# Altium footprint library Connector_JST.PcbLib: 558 footprints (part 21 of 35)
Each footprint in its own frame and in the unit in brackets; x right, y up, seen from the top. Pads: shape width x height; smd on the part's side, far side on the other; paste and mask are expansions set on the pad; w line width, h text height; cw(c..) or ccw(c..) is an arc to the next point about the centre after c.
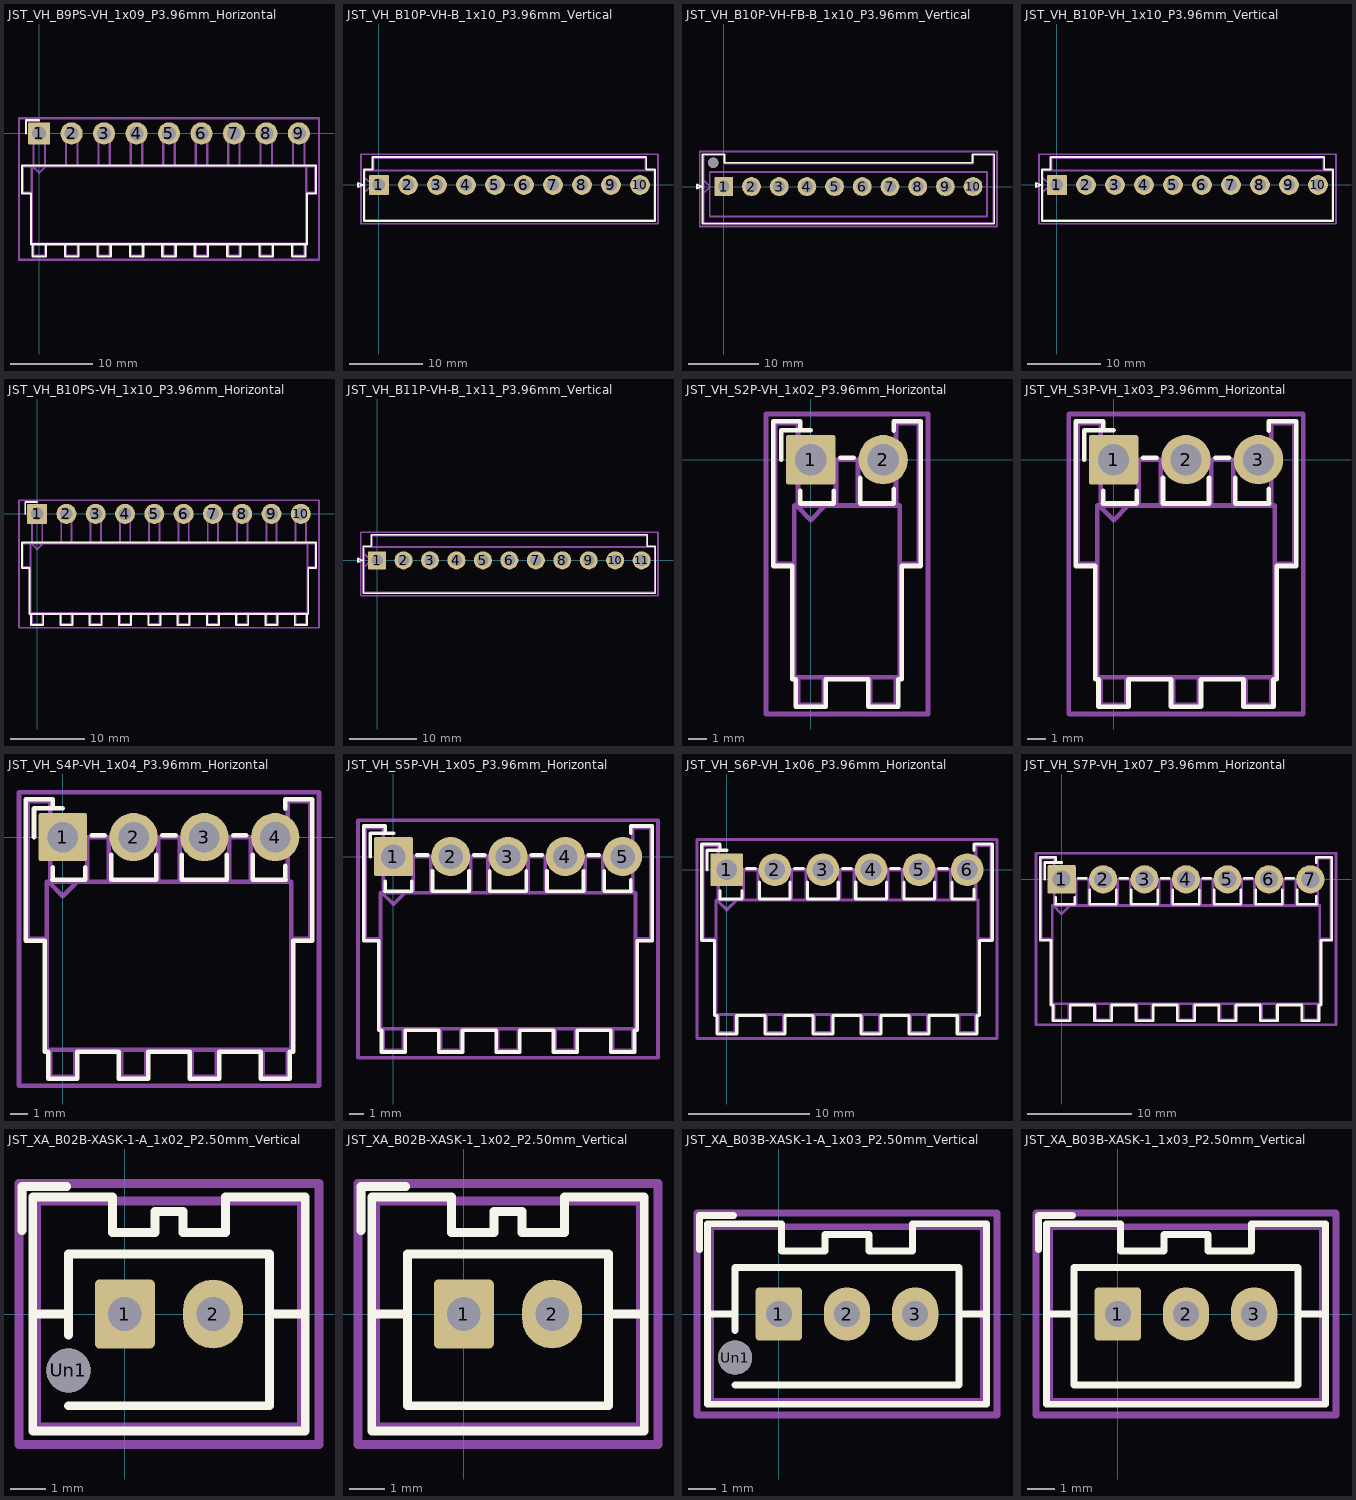
[diagram p20: the footprints below, top view; thin cyan lines are the x and y axes]

## JST_VH_B9PS-VH_1x09_P3.96mm_Horizontal [mm] "JST_VH_B9PS-VH_1x09_P3.96mm_Horizontal"
pads (9):
  rrect9% 2.7x2.7 hole 1.7: 1(0,0)
  round 2.7 hole 1.7: 2(3.96,0) 3(7.92,0) 4(11.88,0) 5(15.84,0) 6(19.8,0) 7(23.76,0) 8(27.72,0) 9(31.68,0)
F.SilkS:
  lines w0.254: -1.61,0 -1.61,1.61 0,1.61 ; -0.82,-13.51 -0.82,-15.01 0.82,-15.01 0.82,-13.51 ; 3.14,-13.51 3.14,-15.01 4.78,-15.01 4.78,-13.51 ; 7.1,-13.51 7.1,-15.01 8.74,-15.01 8.74,-13.51 ; 11.06,-13.51 11.06,-15.01 12.7,-15.01 12.7,-13.51 ; 15.02,-13.51 15.02,-15.01 16.66,-15.01 16.66,-13.51 ; 18.98,-13.51 18.98,-15.01 20.62,-15.01 20.62,-13.51 ; 22.94,-13.51 22.94,-15.01 24.58,-15.01 24.58,-13.51 ; 26.9,-13.51 26.9,-15.01 28.54,-15.01 28.54,-13.51 ; 30.86,-13.51 30.86,-15.01 32.5,-15.01 32.5,-13.51 ; -2.06,-7.31 -1.01,-7.31 -1.01,-13.51 32.69,-13.51 32.69,-7.31 33.74,-7.31 33.74,-3.89 -2.06,-3.89 -2.06,-7.31
Top Component Center:
  lines w0.127: -0.127,0 0.127,0 ; 0,-0.127 0,0.127
Top Assembly:
  lines w0.254: -0.9,-7.2 -1.95,-7.2 -1.95,-4 -0.9,-4 ; -0.8,-4 0,-4.8 0.8,-4 ; -0.7,-13.4 -0.7,-14.9 0.7,-14.9 0.7,-13.4 ; -0.7,-4 -0.7,0 0.7,0 0.7,-4 ; 3.26,-13.4 3.26,-14.9 4.66,-14.9 4.66,-13.4 ; 3.26,-4 3.26,0 4.66,0 4.66,-4 ; 7.22,-13.4 7.22,-14.9 8.62,-14.9 8.62,-13.4 ; 7.22,-4 7.22,0 8.62,0 8.62,-4 ; 11.18,-13.4 11.18,-14.9 12.58,-14.9 12.58,-13.4 ; 11.18,-4 11.18,0 12.58,0 12.58,-4 ; 15.14,-13.4 15.14,-14.9 16.54,-14.9 16.54,-13.4 ; 15.14,-4 15.14,0 16.54,0 16.54,-4 ; 19.1,-13.4 19.1,-14.9 20.5,-14.9 20.5,-13.4 ; 19.1,-4 19.1,0 20.5,0 20.5,-4 ; 23.06,-13.4 23.06,-14.9 24.46,-14.9 24.46,-13.4 ; 23.06,-4 23.06,0 24.46,0 24.46,-4 ; 27.02,-13.4 27.02,-14.9 28.42,-14.9 28.42,-13.4 ; 27.02,-4 27.02,0 28.42,0 28.42,-4 ; 30.98,-13.4 30.98,-14.9 32.38,-14.9 32.38,-13.4 ; 30.98,-4 30.98,0 32.38,0 32.38,-4 ; 32.58,-7.2 33.63,-7.2 33.63,-4 32.58,-4 ; -0.9,-4 32.58,-4 ; -0.9,-4 -0.9,-13.4 32.58,-13.4 32.58,-4
Top Courtyard:
  lines w0.254: -2.45,-15.4 34.13,-15.4 34.13,1.85 -2.45,1.85 -2.45,-15.4
Top Designator:
  text ".Designator" at 12.191,-8.726 h1.52

## JST_VH_B10P-VH-B_1x10_P3.96mm_Vertical [mm] "JST_VH_B10P-VH-B_1x10_P3.96mm_Vertical"
pads (10):
  rrect9% 2.7x2.7 hole 1.7: 1(0,0)
  round 2.7 hole 1.7: 2(3.96,0) 3(7.92,0) 4(11.88,0) 5(15.84,0) 6(19.8,0) 7(23.76,0) 8(27.72,0) 9(31.68,0) 10(35.64,0)
F.SilkS:
  lines w0.254: -2.86,-0.3 -2.26,0 -2.86,0.3 -2.86,-0.3 ; -2.06,-4.91 37.7,-4.91 37.7,2.11 36.5,2.11 36.5,3.81 -0.86,3.81 -0.86,2.11 -2.06,2.11 -2.06,-4.91
Top Component Center:
  lines w0.127: -0.127,0 0.127,0 ; 0,-0.127 0,0.127
Top Assembly:
  lines w0.254: -1.95,-1 -0.95,0 -1.95,1 ; -0.75,2 -0.75,3.7 36.39,3.7 36.39,2 ; -1.95,-4.8 37.59,-4.8 37.59,2 -1.95,2 -1.95,-4.8
Top Courtyard:
  lines w0.254: -2.45,-5.3 38.1,-5.3 38.1,4.2 -2.45,4.2 -2.45,-5.3
Top Designator:
  text ".Designator" at 14.223,-3.265 h1.52

## JST_VH_B10P-VH-FB-B_1x10_P3.96mm_Vertical [mm] "JST_VH_B10P-VH-FB-B_1x10_P3.96mm_Vertical"
pads (11):
  rrect9% 2.7x2.7 hole 1.7: 1(0,0)
  round 2.7 hole 1.7: 2(3.96,0) 3(7.92,0) 4(11.88,0) 5(15.84,0) 6(19.8,0) 7(23.76,0) 8(27.72,0) 9(31.68,0) 10(35.64,0)
  round 1.45 hole 1.45: Un1(-1.5,3.4)
F.SilkS:
  lines w0.254: -3.83,-0.3 -3.83,0.3 -3.23,0 -3.83,-0.3 ; -3.03,-5.31 -3.03,4.61 0.09,4.61 0.09,3.41 35.55,3.41 35.55,4.61 38.67,4.61 38.67,-5.31 -3.03,-5.31
Top Component Center:
  lines w0.127: -0.127,0 0.127,0 ; 0,-0.127 0,0.127
Top Assembly:
  lines w0.254: -2.92,-1 -1.92,0 -2.92,1 ; -2.92,-5.2 -2.92,4.5 -0.02,4.5 -0.02,3.3 35.66,3.3 35.66,4.5 38.56,4.5 38.56,-5.2 -2.92,-5.2 ; -2,-4.3 -2,2.1 37.64,2.1 37.64,-4.3 -2,-4.3
Top Courtyard:
  lines w0.254: -3.43,-5.7 -3.43,5 39.06,5 39.06,-5.7 -3.43,-5.7
Top Designator:
  text ".Designator" at 14.096,-2.884 h1.52

## JST_VH_B10P-VH_1x10_P3.96mm_Vertical [mm] "JST_VH_B10P-VH_1x10_P3.96mm_Vertical"
pads (10):
  rrect9% 2.7x2.7 hole 1.7: 1(0,0)
  round 2.7 hole 1.7: 2(3.96,0) 3(7.92,0) 4(11.88,0) 5(15.84,0) 6(19.8,0) 7(23.76,0) 8(27.72,0) 9(31.68,0) 10(35.64,0)
F.SilkS:
  lines w0.254: -2.86,-0.3 -2.26,0 -2.86,0.3 -2.86,-0.3 ; -2.06,-4.91 37.7,-4.91 37.7,2.11 36.5,2.11 36.5,3.81 -0.86,3.81 -0.86,2.11 -2.06,2.11 -2.06,-4.91
Top Component Center:
  lines w0.127: -0.127,0 0.127,0 ; 0,-0.127 0,0.127
Top Assembly:
  lines w0.254: -1.95,-1 -0.95,0 -1.95,1 ; -0.75,2 -0.75,3.7 36.39,3.7 36.39,2 ; -1.95,-4.8 37.59,-4.8 37.59,2 -1.95,2 -1.95,-4.8
Top Courtyard:
  lines w0.254: -2.45,-5.3 38.1,-5.3 38.1,4.2 -2.45,4.2 -2.45,-5.3
Top Designator:
  text ".Designator" at 14.35,-3.265 h1.52

## JST_VH_B10PS-VH_1x10_P3.96mm_Horizontal [mm] "JST_VH_B10PS-VH_1x10_P3.96mm_Horizontal"
pads (10):
  rrect9% 2.7x2.7 hole 1.7: 1(0,0)
  round 2.7 hole 1.7: 2(3.96,0) 3(7.92,0) 4(11.88,0) 5(15.84,0) 6(19.8,0) 7(23.76,0) 8(27.72,0) 9(31.68,0) 10(35.64,0)
F.SilkS:
  lines w0.254: -1.61,0 -1.61,1.61 0,1.61 ; -0.82,-13.51 -0.82,-15.01 0.82,-15.01 0.82,-13.51 ; 3.14,-13.51 3.14,-15.01 4.78,-15.01 4.78,-13.51 ; 7.1,-13.51 7.1,-15.01 8.74,-15.01 8.74,-13.51 ; 11.06,-13.51 11.06,-15.01 12.7,-15.01 12.7,-13.51 ; 15.02,-13.51 15.02,-15.01 16.66,-15.01 16.66,-13.51 ; 18.98,-13.51 18.98,-15.01 20.62,-15.01 20.62,-13.51 ; 22.94,-13.51 22.94,-15.01 24.58,-15.01 24.58,-13.51 ; 26.9,-13.51 26.9,-15.01 28.54,-15.01 28.54,-13.51 ; 30.86,-13.51 30.86,-15.01 32.5,-15.01 32.5,-13.51 ; 34.82,-13.51 34.82,-15.01 36.46,-15.01 36.46,-13.51 ; -2.06,-7.31 -2.06,-3.89 37.7,-3.89 37.7,-7.31 36.65,-7.31 36.65,-13.51 -1.01,-13.51 -1.01,-7.31 -2.06,-7.31
Top Component Center:
  lines w0.127: -0.127,0 0.127,0 ; 0,-0.127 0,0.127
Top Assembly:
  lines w0.254: -0.9,-7.2 -1.95,-7.2 -1.95,-4 -0.9,-4 ; -0.8,-4 0,-4.8 0.8,-4 ; -0.7,-13.4 -0.7,-14.9 0.7,-14.9 0.7,-13.4 ; -0.7,-4 -0.7,0 0.7,0 0.7,-4 ; 3.26,-13.4 3.26,-14.9 4.66,-14.9 4.66,-13.4 ; 3.26,-4 3.26,0 4.66,0 4.66,-4 ; 7.22,-13.4 7.22,-14.9 8.62,-14.9 8.62,-13.4 ; 7.22,-4 7.22,0 8.62,0 8.62,-4 ; 11.18,-13.4 11.18,-14.9 12.58,-14.9 12.58,-13.4 ; 11.18,-4 11.18,0 12.58,0 12.58,-4 ; 15.14,-13.4 15.14,-14.9 16.54,-14.9 16.54,-13.4 ; 15.14,-4 15.14,0 16.54,0 16.54,-4 ; 19.1,-13.4 19.1,-14.9 20.5,-14.9 20.5,-13.4 ; 19.1,-4 19.1,0 20.5,0 20.5,-4 ; 23.06,-13.4 23.06,-14.9 24.46,-14.9 24.46,-13.4 ; 23.06,-4 23.06,0 24.46,0 24.46,-4 ; 27.02,-13.4 27.02,-14.9 28.42,-14.9 28.42,-13.4 ; 27.02,-4 27.02,0 28.42,0 28.42,-4 ; 30.98,-13.4 30.98,-14.9 32.38,-14.9 32.38,-13.4 ; 30.98,-4 30.98,0 32.38,0 32.38,-4 ; 34.94,-13.4 34.94,-14.9 36.34,-14.9 36.34,-13.4 ; 34.94,-4 34.94,0 36.34,0 36.34,-4 ; 36.54,-7.2 37.59,-7.2 37.59,-4 36.54,-4 ; -0.9,-4 -0.9,-13.4 36.54,-13.4 36.54,-4 ; -0.9,-4 36.54,-4
Top Courtyard:
  lines w0.254: -2.45,-15.4 -2.45,1.85 38.1,1.85 38.1,-15.4 -2.45,-15.4
Top Designator:
  text ".Designator" at 14.35,-8.599 h1.52

## JST_VH_B11P-VH-B_1x11_P3.96mm_Vertical [mm] "JST_VH_B11P-VH-B_1x11_P3.96mm_Vertical"
pads (11):
  rrect9% 2.7x2.7 hole 1.7: 1(0,0)
  round 2.7 hole 1.7: 2(3.96,0) 3(7.92,0) 4(11.88,0) 5(15.84,0) 6(19.8,0) 7(23.76,0) 8(27.72,0) 9(31.68,0) 10(35.64,0) 11(39.6,0)
F.SilkS:
  lines w0.254: -2.86,-0.3 -2.86,0.3 -2.26,0 -2.86,-0.3 ; -2.06,-4.91 -2.06,2.11 -0.86,2.11 -0.86,3.81 40.46,3.81 40.46,2.11 41.66,2.11 41.66,-4.91 -2.06,-4.91
Top Component Center:
  lines w0.127: -0.127,0 0.127,0 ; 0,-0.127 0,0.127
Top Assembly:
  lines w0.254: -1.95,-1 -0.95,0 -1.95,1 ; -0.75,2 -0.75,3.7 40.35,3.7 40.35,2 ; -1.95,-4.8 -1.95,2 41.55,2 41.55,-4.8 -1.95,-4.8
Top Courtyard:
  lines w0.254: -2.45,-5.3 -2.45,4.2 42.05,4.2 42.05,-5.3 -2.45,-5.3
Top Designator:
  text ".Designator" at 14.604,-3.265 h1.52

## JST_VH_S2P-VH_1x02_P3.96mm_Horizontal [mm] "JST_VH_S2P-VH_1x02_P3.96mm_Horizontal"
pads (2):
  rrect9% 2.7x2.7 hole 1.7: 1(0,0)
  round 2.7 hole 1.7: 2(3.96,0)
F.SilkS:
  lines w0.254: -1.61,0 -1.61,1.61 0,1.61 ; -0.58,-2.39 1.26,-2.39 1.26,-1.7 ; -0.57,-2.39 -0.57,-1.7 ; -0.57,1.61 -0.57,2.11 -2.06,2.11 -2.06,-5.81 -1.01,-5.81 -1.01,-12.01 -0.82,-12.01 -0.82,-13.51 0.82,-13.51 0.82,-12.01 3.14,-12.01 3.14,-13.51 4.78,-13.51 4.78,-12.01 4.97,-12.01 4.97,-5.81 6.02,-5.81 6.02,2.11 4.53,2.11 4.53,1.6 ; 1.61,0.11 2.35,0.11 ; 2.7,-1 2.7,-2.39 4.54,-2.39 ; 4.53,-2.39 4.53,-1.6
Top Component Center:
  lines w0.127: -0.127,0 0.127,0 ; 0,-0.127 0,0.127
Top Assembly:
  lines w0.254: -0.9,-5.7 -1.95,-5.7 -1.95,2 -0.7,2 -0.7,-2.5 ; -0.8,-2.5 0,-3.3 0.8,-2.5 ; -0.7,-11.9 -0.7,-13.4 0.7,-13.4 0.7,-11.9 ; 1.38,-2.5 1.38,0 2.58,0 2.58,-2.5 ; 3.26,-11.9 3.26,-13.4 4.66,-13.4 4.66,-11.9 ; 4.66,-2.5 4.66,2 5.91,2 5.91,-5.7 4.86,-5.7 ; -0.9,-11.9 4.86,-11.9 4.86,-2.5 -0.9,-2.5 -0.9,-11.9
Top Courtyard:
  lines w0.254: -2.45,-13.9 6.41,-13.9 6.41,2.5 -2.45,2.5 -2.45,-13.9
Top Designator:
  text ".Designator" at -1.398,-5.297 h1.52

## JST_VH_S3P-VH_1x03_P3.96mm_Horizontal [mm] "JST_VH_S3P-VH_1x03_P3.96mm_Horizontal"
pads (3):
  rrect9% 2.7x2.7 hole 1.7: 1(0,0)
  round 2.7 hole 1.7: 2(3.96,0) 3(7.92,0)
F.SilkS:
  lines w0.254: -1.61,0 -1.61,1.61 0,1.61 ; -0.58,-2.39 1.26,-2.39 1.26,-1.7 ; -0.57,-2.39 -0.57,-1.7 ; -0.57,1.61 -0.57,2.11 -2.06,2.11 -2.06,-5.81 -1.01,-5.81 -1.01,-12.01 -0.82,-12.01 -0.82,-13.51 0.82,-13.51 0.82,-12.01 3.14,-12.01 3.14,-13.51 4.78,-13.51 4.78,-12.01 7.1,-12.01 7.1,-13.51 8.74,-13.51 8.74,-12.01 8.93,-12.01 8.93,-5.81 9.98,-5.81 9.98,2.11 8.49,2.11 8.49,1.6 ; 1.61,0.11 2.35,0.11 ; 2.7,-1 2.7,-2.39 5.22,-2.39 5.22,-1 ; 5.57,0.11 6.31,0.11 ; 6.66,-1 6.66,-2.39 8.5,-2.39 ; 8.49,-2.39 8.49,-1.6
Top Component Center:
  lines w0.127: -0.127,0 0.127,0 ; 0,-0.127 0,0.127
Top Assembly:
  lines w0.254: -0.9,-5.7 -1.95,-5.7 -1.95,2 -0.7,2 -0.7,-2.5 ; -0.8,-2.5 0,-3.3 0.8,-2.5 ; -0.7,-11.9 -0.7,-13.4 0.7,-13.4 0.7,-11.9 ; 1.38,-2.5 1.38,0 2.58,0 2.58,-2.5 ; 3.26,-11.9 3.26,-13.4 4.66,-13.4 4.66,-11.9 ; 5.34,-2.5 5.34,0 6.54,0 6.54,-2.5 ; 7.22,-11.9 7.22,-13.4 8.62,-13.4 8.62,-11.9 ; 8.62,-2.5 8.62,2 9.87,2 9.87,-5.7 8.82,-5.7 ; -0.9,-11.9 8.82,-11.9 8.82,-2.5 -0.9,-2.5 -0.9,-11.9
Top Courtyard:
  lines w0.254: -2.45,-13.9 10.37,-13.9 10.37,2.5 -2.45,2.5 -2.45,-13.9
Top Designator:
  text ".Designator" at 0.53,-6.044 h1.52

## JST_VH_S4P-VH_1x04_P3.96mm_Horizontal [mm] "JST_VH_S4P-VH_1x04_P3.96mm_Horizontal"
pads (4):
  rrect9% 2.7x2.7 hole 1.7: 1(0,0)
  round 2.7 hole 1.7: 2(3.96,0) 3(7.92,0) 4(11.88,0)
F.SilkS:
  lines w0.254: -1.61,0 -1.61,1.61 0,1.61 ; -0.58,-2.39 1.26,-2.39 1.26,-1.7 ; -0.57,-2.39 -0.57,-1.7 ; -0.57,1.61 -0.57,2.11 -2.06,2.11 -2.06,-5.81 -1.01,-5.81 -1.01,-12.01 -0.82,-12.01 -0.82,-13.51 0.82,-13.51 0.82,-12.01 3.14,-12.01 3.14,-13.51 4.78,-13.51 4.78,-12.01 7.1,-12.01 7.1,-13.51 8.74,-13.51 8.74,-12.01 11.06,-12.01 11.06,-13.51 12.7,-13.51 12.7,-12.01 12.89,-12.01 12.89,-5.81 13.94,-5.81 13.94,2.11 12.45,2.11 12.45,1.6 ; 1.61,0.11 2.35,0.11 ; 2.7,-1 2.7,-2.39 5.22,-2.39 5.22,-1 ; 5.57,0.11 6.31,0.11 ; 6.66,-1 6.66,-2.39 9.18,-2.39 9.18,-1 ; 9.53,0.11 10.27,0.11 ; 10.62,-1 10.62,-2.39 12.46,-2.39 ; 12.45,-2.39 12.45,-1.6
Top Component Center:
  lines w0.127: -0.127,0 0.127,0 ; 0,-0.127 0,0.127
Top Assembly:
  lines w0.254: -0.9,-5.7 -1.95,-5.7 -1.95,2 -0.7,2 -0.7,-2.5 ; -0.8,-2.5 0,-3.3 0.8,-2.5 ; -0.7,-11.9 -0.7,-13.4 0.7,-13.4 0.7,-11.9 ; 1.38,-2.5 1.38,0 2.58,0 2.58,-2.5 ; 3.26,-11.9 3.26,-13.4 4.66,-13.4 4.66,-11.9 ; 5.34,-2.5 5.34,0 6.54,0 6.54,-2.5 ; 7.22,-11.9 7.22,-13.4 8.62,-13.4 8.62,-11.9 ; 9.3,-2.5 9.3,0 10.5,0 10.5,-2.5 ; 11.18,-11.9 11.18,-13.4 12.58,-13.4 12.58,-11.9 ; 12.58,-2.5 12.58,2 13.83,2 13.83,-5.7 12.78,-5.7 ; -0.9,-11.9 -0.9,-2.5 12.78,-2.5 12.78,-11.9 -0.9,-11.9
Top Courtyard:
  lines w0.254: -2.45,-13.9 -2.45,2.5 14.33,2.5 14.33,-13.9 -2.45,-13.9
Top Designator:
  text ".Designator" at 2.51,-6.044 h1.52

## JST_VH_S5P-VH_1x05_P3.96mm_Horizontal [mm] "JST_VH_S5P-VH_1x05_P3.96mm_Horizontal"
pads (5):
  rrect9% 2.7x2.7 hole 1.7: 1(0,0)
  round 2.7 hole 1.7: 2(3.96,0) 3(7.92,0) 4(11.88,0) 5(15.84,0)
F.SilkS:
  lines w0.254: -1.61,0 -1.61,1.61 0,1.61 ; -0.58,-2.39 1.26,-2.39 1.26,-1.7 ; -0.57,-2.39 -0.57,-1.7 ; -0.57,1.61 -0.57,2.11 -2.06,2.11 -2.06,-5.81 -1.01,-5.81 -1.01,-12.01 -0.82,-12.01 -0.82,-13.51 0.82,-13.51 0.82,-12.01 3.14,-12.01 3.14,-13.51 4.78,-13.51 4.78,-12.01 7.1,-12.01 7.1,-13.51 8.74,-13.51 8.74,-12.01 11.06,-12.01 11.06,-13.51 12.7,-13.51 12.7,-12.01 15.02,-12.01 15.02,-13.51 16.66,-13.51 16.66,-12.01 16.85,-12.01 16.85,-5.81 17.9,-5.81 17.9,2.11 16.41,2.11 16.41,1.6 ; 1.61,0.11 2.35,0.11 ; 2.7,-1 2.7,-2.39 5.22,-2.39 5.22,-1 ; 5.57,0.11 6.31,0.11 ; 6.66,-1 6.66,-2.39 9.18,-2.39 9.18,-1 ; 9.53,0.11 10.27,0.11 ; 10.62,-1 10.62,-2.39 13.14,-2.39 13.14,-1 ; 13.49,0.11 14.23,0.11 ; 14.58,-1 14.58,-2.39 16.42,-2.39 ; 16.41,-2.39 16.41,-1.6
Top Component Center:
  lines w0.127: -0.127,0 0.127,0 ; 0,-0.127 0,0.127
Top Assembly:
  lines w0.254: -0.9,-5.7 -1.95,-5.7 -1.95,2 -0.7,2 -0.7,-2.5 ; -0.8,-2.5 0,-3.3 0.8,-2.5 ; -0.7,-11.9 -0.7,-13.4 0.7,-13.4 0.7,-11.9 ; 1.38,-2.5 1.38,0 2.58,0 2.58,-2.5 ; 3.26,-11.9 3.26,-13.4 4.66,-13.4 4.66,-11.9 ; 5.34,-2.5 5.34,0 6.54,0 6.54,-2.5 ; 7.22,-11.9 7.22,-13.4 8.62,-13.4 8.62,-11.9 ; 9.3,-2.5 9.3,0 10.5,0 10.5,-2.5 ; 11.18,-11.9 11.18,-13.4 12.58,-13.4 12.58,-11.9 ; 13.26,-2.5 13.26,0 14.46,0 14.46,-2.5 ; 15.14,-11.9 15.14,-13.4 16.54,-13.4 16.54,-11.9 ; 16.54,-2.5 16.54,2 17.79,2 17.79,-5.7 16.74,-5.7 ; -0.9,-11.9 -0.9,-2.5 16.74,-2.5 16.74,-11.9 -0.9,-11.9
Top Courtyard:
  lines w0.254: -2.45,-13.9 -2.45,2.5 18.29,2.5 18.29,-13.9 -2.45,-13.9
Top Designator:
  text ".Designator" at 4.49,-6.044 h1.52

## JST_VH_S6P-VH_1x06_P3.96mm_Horizontal [mm] "JST_VH_S6P-VH_1x06_P3.96mm_Horizontal"
pads (6):
  rrect9% 2.7x2.7 hole 1.7: 1(0,0)
  round 2.7 hole 1.7: 2(3.96,0) 3(7.92,0) 4(11.88,0) 5(15.84,0) 6(19.8,0)
F.SilkS:
  lines w0.254: -1.61,0 -1.61,1.61 0,1.61 ; -0.58,-2.39 1.26,-2.39 1.26,-1.7 ; -0.57,-2.39 -0.57,-1.7 ; -0.57,1.61 -0.57,2.11 -2.06,2.11 -2.06,-5.81 -1.01,-5.81 -1.01,-12.01 -0.82,-12.01 -0.82,-13.51 0.82,-13.51 0.82,-12.01 3.14,-12.01 3.14,-13.51 4.78,-13.51 4.78,-12.01 7.1,-12.01 7.1,-13.51 8.74,-13.51 8.74,-12.01 11.06,-12.01 11.06,-13.51 12.7,-13.51 12.7,-12.01 15.02,-12.01 15.02,-13.51 16.66,-13.51 16.66,-12.01 18.98,-12.01 18.98,-13.51 20.62,-13.51 20.62,-12.01 20.81,-12.01 20.81,-5.81 21.86,-5.81 21.86,2.11 20.37,2.11 20.37,1.6 ; 1.61,0.11 2.35,0.11 ; 2.7,-1 2.7,-2.39 5.22,-2.39 5.22,-1 ; 5.57,0.11 6.31,0.11 ; 6.66,-1 6.66,-2.39 9.18,-2.39 9.18,-1 ; 9.53,0.11 10.27,0.11 ; 10.62,-1 10.62,-2.39 13.14,-2.39 13.14,-1 ; 13.49,0.11 14.23,0.11 ; 14.58,-1 14.58,-2.39 17.1,-2.39 17.1,-1 ; 17.45,0.11 18.19,0.11 ; 18.54,-1 18.54,-2.39 20.38,-2.39 ; 20.37,-2.39 20.37,-1.6
Top Component Center:
  lines w0.127: -0.127,0 0.127,0 ; 0,-0.127 0,0.127
Top Assembly:
  lines w0.254: -0.9,-5.7 -1.95,-5.7 -1.95,2 -0.7,2 -0.7,-2.5 ; -0.8,-2.5 0,-3.3 0.8,-2.5 ; -0.7,-11.9 -0.7,-13.4 0.7,-13.4 0.7,-11.9 ; 1.38,-2.5 1.38,0 2.58,0 2.58,-2.5 ; 3.26,-11.9 3.26,-13.4 4.66,-13.4 4.66,-11.9 ; 5.34,-2.5 5.34,0 6.54,0 6.54,-2.5 ; 7.22,-11.9 7.22,-13.4 8.62,-13.4 8.62,-11.9 ; 9.3,-2.5 9.3,0 10.5,0 10.5,-2.5 ; 11.18,-11.9 11.18,-13.4 12.58,-13.4 12.58,-11.9 ; 13.26,-2.5 13.26,0 14.46,0 14.46,-2.5 ; 15.14,-11.9 15.14,-13.4 16.54,-13.4 16.54,-11.9 ; 17.22,-2.5 17.22,0 18.42,0 18.42,-2.5 ; 19.1,-11.9 19.1,-13.4 20.5,-13.4 20.5,-11.9 ; 20.5,-2.5 20.5,2 21.75,2 21.75,-5.7 20.7,-5.7 ; -0.9,-11.9 20.7,-11.9 20.7,-2.5 -0.9,-2.5 -0.9,-11.9
Top Courtyard:
  lines w0.254: -2.45,-13.9 22.25,-13.9 22.25,2.5 -2.45,2.5 -2.45,-13.9
Top Designator:
  text ".Designator" at 6.476,-6.948 h1.52

## JST_VH_S7P-VH_1x07_P3.96mm_Horizontal [mm] "JST_VH_S7P-VH_1x07_P3.96mm_Horizontal"
pads (7):
  rrect9% 2.7x2.7 hole 1.7: 1(0,0)
  round 2.7 hole 1.7: 2(3.96,0) 3(7.92,0) 4(11.88,0) 5(15.84,0) 6(19.8,0) 7(23.76,0)
F.SilkS:
  lines w0.254: -1.61,0 -1.61,1.61 0,1.61 ; -0.58,-2.39 1.26,-2.39 1.26,-1.7 ; -0.57,-2.39 -0.57,-1.7 ; -0.57,1.61 -0.57,2.11 -2.06,2.11 -2.06,-5.81 -1.01,-5.81 -1.01,-12.01 -0.82,-12.01 -0.82,-13.51 0.82,-13.51 0.82,-12.01 3.14,-12.01 3.14,-13.51 4.78,-13.51 4.78,-12.01 7.1,-12.01 7.1,-13.51 8.74,-13.51 8.74,-12.01 11.06,-12.01 11.06,-13.51 12.7,-13.51 12.7,-12.01 15.02,-12.01 15.02,-13.51 16.66,-13.51 16.66,-12.01 18.98,-12.01 18.98,-13.51 20.62,-13.51 20.62,-12.01 22.94,-12.01 22.94,-13.51 24.58,-13.51 24.58,-12.01 24.77,-12.01 24.77,-5.81 25.82,-5.81 25.82,2.11 24.33,2.11 24.33,1.6 ; 1.61,0.11 2.35,0.11 ; 2.7,-1 2.7,-2.39 5.22,-2.39 5.22,-1 ; 5.57,0.11 6.31,0.11 ; 6.66,-1 6.66,-2.39 9.18,-2.39 9.18,-1 ; 9.53,0.11 10.27,0.11 ; 10.62,-1 10.62,-2.39 13.14,-2.39 13.14,-1 ; 13.49,0.11 14.23,0.11 ; 14.58,-1 14.58,-2.39 17.1,-2.39 17.1,-1 ; 17.45,0.11 18.19,0.11 ; 18.54,-1 18.54,-2.39 21.06,-2.39 21.06,-1 ; 21.41,0.11 22.15,0.11 ; 22.5,-1 22.5,-2.39 24.34,-2.39 ; 24.33,-2.39 24.33,-1.6
Top Component Center:
  lines w0.127: -0.127,0 0.127,0 ; 0,-0.127 0,0.127
Top Assembly:
  lines w0.254: -0.9,-5.7 -1.95,-5.7 -1.95,2 -0.7,2 -0.7,-2.5 ; -0.8,-2.5 0,-3.3 0.8,-2.5 ; -0.7,-11.9 -0.7,-13.4 0.7,-13.4 0.7,-11.9 ; 1.38,-2.5 1.38,0 2.58,0 2.58,-2.5 ; 3.26,-11.9 3.26,-13.4 4.66,-13.4 4.66,-11.9 ; 5.34,-2.5 5.34,0 6.54,0 6.54,-2.5 ; 7.22,-11.9 7.22,-13.4 8.62,-13.4 8.62,-11.9 ; 9.3,-2.5 9.3,0 10.5,0 10.5,-2.5 ; 11.18,-11.9 11.18,-13.4 12.58,-13.4 12.58,-11.9 ; 13.26,-2.5 13.26,0 14.46,0 14.46,-2.5 ; 15.14,-11.9 15.14,-13.4 16.54,-13.4 16.54,-11.9 ; 17.22,-2.5 17.22,0 18.42,0 18.42,-2.5 ; 19.1,-11.9 19.1,-13.4 20.5,-13.4 20.5,-11.9 ; 21.18,-2.5 21.18,0 22.38,0 22.38,-2.5 ; 23.06,-11.9 23.06,-13.4 24.46,-13.4 24.46,-11.9 ; 24.46,-2.5 24.46,2 25.71,2 25.71,-5.7 24.66,-5.7 ; -0.9,-11.9 24.66,-11.9 24.66,-2.5 -0.9,-2.5 -0.9,-11.9
Top Courtyard:
  lines w0.254: -2.45,-13.9 26.21,-13.9 26.21,2.5 -2.45,2.5 -2.45,-13.9
Top Designator:
  text ".Designator" at 8.45,-6.044 h1.52

## JST_XA_B02B-XASK-1-A_1x02_P2.50mm_Vertical [mm] "JST_XA_B02B-XASK-1-A_1x02_P2.50mm_Vertical"
pads (3):
  rrect15% 1.7x1.95 hole 0.95: 1(0,0)
  rrect100% 1.7x1.95 hole 0.95: 2(2.5,0)
  round 1.25 hole 1.25: Un1(-1.6,-1.6)
F.SilkS:
  lines w0.254: -2.91,2.36 -2.91,3.61 -1.66,3.61 ; -2.61,0 -1.6,0 ; -1.6,-2.6 4.1,-2.6 4.1,1.7 -1.6,1.7 -1.6,-0.6 ; 4.1,0 5.11,0 ; -2.61,-3.31 5.11,-3.31 5.11,3.31 2.85,3.31 2.85,2.31 1.65,2.31 1.65,2.91 0.85,2.91 0.85,2.31 -0.35,2.31 -0.35,3.31 -2.61,3.31 -2.61,-3.31
Top Component Center:
  lines w0.127: -0.127,0 0.127,0 ; 0,-0.127 0,0.127
Top Assembly:
  lines w0.254: -2.91,2.36 -2.91,3.61 -1.66,3.61 ; -2.5,-3.2 5,-3.2 5,3.2 -2.5,3.2 -2.5,-3.2
Top Courtyard:
  lines w0.254: -3,-3.7 5.5,-3.7 5.5,3.7 -3,3.7 -3,-3.7
Top Designator:
  text ".Designator" at -2.16,-2.122 h1.52

## JST_XA_B02B-XASK-1_1x02_P2.50mm_Vertical [mm] "JST_XA_B02B-XASK-1_1x02_P2.50mm_Vertical"
pads (2):
  rrect15% 1.7x1.95 hole 0.95: 1(0,0)
  rrect100% 1.7x1.95 hole 0.95: 2(2.5,0)
F.SilkS:
  lines w0.254: -2.91,2.36 -2.91,3.61 -1.66,3.61 ; -2.61,0 -1.6,0 ; 4.1,0 5.11,0 ; -2.61,-3.31 5.11,-3.31 5.11,3.31 2.85,3.31 2.85,2.31 1.65,2.31 1.65,2.91 0.85,2.91 0.85,2.31 -0.35,2.31 -0.35,3.31 -2.61,3.31 -2.61,-3.31 ; -1.6,-2.6 4.1,-2.6 4.1,1.7 -1.6,1.7 -1.6,-2.6
Top Component Center:
  lines w0.127: -0.127,0 0.127,0 ; 0,-0.127 0,0.127
Top Assembly:
  lines w0.254: -2.91,2.36 -2.91,3.61 -1.66,3.61 ; -2.5,-3.2 5,-3.2 5,3.2 -2.5,3.2 -2.5,-3.2
Top Courtyard:
  lines w0.254: -3,-3.7 5.5,-3.7 5.5,3.7 -3,3.7 -3,-3.7
Top Designator:
  text ".Designator" at -2.16,-2.249 h1.52

## JST_XA_B03B-XASK-1-A_1x03_P2.50mm_Vertical [mm] "JST_XA_B03B-XASK-1-A_1x03_P2.50mm_Vertical"
pads (4):
  rrect15% 1.7x1.95 hole 0.95: 1(0,0)
  rrect100% 1.7x1.95 hole 0.95: 2(2.5,0) 3(5,0)
  round 1.25 hole 1.25: Un1(-1.6,-1.6)
F.SilkS:
  lines w0.254: -2.91,2.36 -2.91,3.61 -1.66,3.61 ; -2.61,0 -1.6,0 ; -1.6,-2.6 6.6,-2.6 6.6,1.7 -1.6,1.7 -1.6,-0.6 ; 6.6,0 7.61,0 ; -2.61,-3.31 7.61,-3.31 7.61,3.31 4.9,3.31 4.9,2.31 3.3,2.31 3.3,2.91 1.7,2.91 1.7,2.31 0.1,2.31 0.1,3.31 -2.61,3.31 -2.61,-3.31
Top Component Center:
  lines w0.127: -0.127,0 0.127,0 ; 0,-0.127 0,0.127
Top Assembly:
  lines w0.254: -2.91,2.36 -2.91,3.61 -1.66,3.61 ; -2.5,-3.2 7.5,-3.2 7.5,3.2 -2.5,3.2 -2.5,-3.2
Top Courtyard:
  lines w0.254: -3,-3.7 8,-3.7 8,3.7 -3,3.7 -3,-3.7
Top Designator:
  text ".Designator" at -0.763,-2.122 h1.52

## JST_XA_B03B-XASK-1_1x03_P2.50mm_Vertical [mm] "JST_XA_B03B-XASK-1_1x03_P2.50mm_Vertical"
pads (3):
  rrect15% 1.7x1.95 hole 0.95: 1(0,0)
  rrect100% 1.7x1.95 hole 0.95: 2(2.5,0) 3(5,0)
F.SilkS:
  lines w0.254: -2.91,2.36 -2.91,3.61 -1.66,3.61 ; -2.61,0 -1.6,0 ; 6.6,0 7.61,0 ; -2.61,-3.31 7.61,-3.31 7.61,3.31 4.9,3.31 4.9,2.31 3.3,2.31 3.3,2.91 1.7,2.91 1.7,2.31 0.1,2.31 0.1,3.31 -2.61,3.31 -2.61,-3.31 ; -1.6,-2.6 6.6,-2.6 6.6,1.7 -1.6,1.7 -1.6,-2.6
Top Component Center:
  lines w0.127: -0.127,0 0.127,0 ; 0,-0.127 0,0.127
Top Assembly:
  lines w0.254: -2.91,2.36 -2.91,3.61 -1.66,3.61 ; -2.5,-3.2 7.5,-3.2 7.5,3.2 -2.5,3.2 -2.5,-3.2
Top Courtyard:
  lines w0.254: -3,-3.7 8,-3.7 8,3.7 -3,3.7 -3,-3.7
Top Designator:
  text ".Designator" at -0.763,-2.249 h1.52